# Altium footprint library PcbLibV01.PcbLib: 5 footprints
Each footprint in its own frame and in the unit in brackets; x right, y up, seen from the top. Pads: shape width x height; smd on the part's side, far side on the other; paste and mask are expansions set on the pad; w line width, h text height; cw(c..) or ccw(c..) is an arc to the next point about the centre after c.
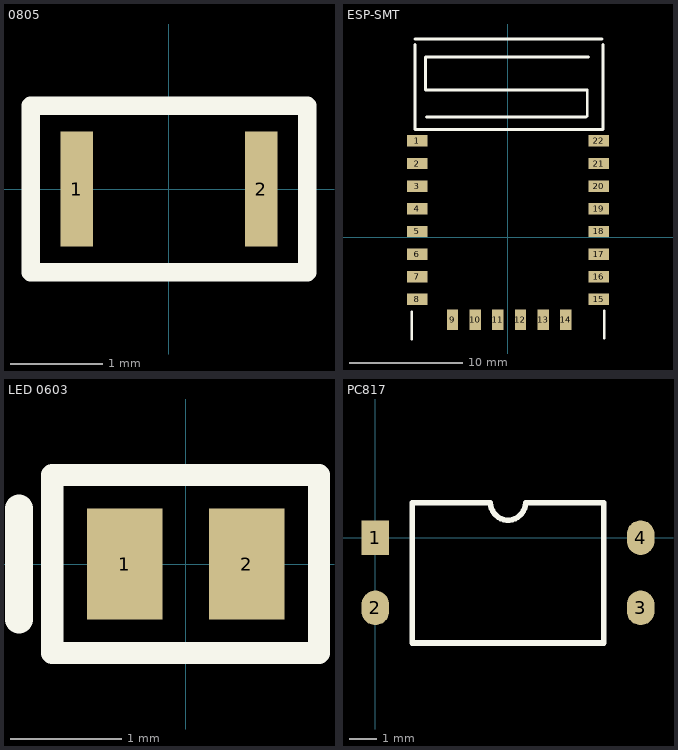
[diagram p0: the footprints below, top view; thin cyan lines are the x and y axes]

## 0805 [mm]
pads (2):
  rect 0.35x1.25 smd: 1(-1,0) 2(1,0)
Top Overlay:
  lines w0.2: -1.5,-0.9 -1.5,0.9 1.5,0.9 1.5,-0.9 -1.5,-0.9
3D body "User Library-CR2012-0805.step": height 0.61, standoff 0.01, extent -1,-0.625 1,0.625

## ESP-SMT [mm]
pads (22):
  rect 1.8x1 smd: 1(-8,8.5) 2(-8,6.5) 3(-8,4.5) 4(-8,2.5) 5(-8,0.5) 6(-8,-1.5) 7(-8,-3.5) 8(-8,-5.5) 15(8,-5.5) 16(8,-3.5) 17(8,-1.5) 18(8,0.5) 19(8,2.5) 20(8,4.5) 21(8,6.5) 22(8,8.5)
  rect 1x1.8 smd: 9(-4.9,-7.3) 10(-2.9,-7.3) 11(-0.9,-7.3) 12(1.1,-7.3) 13(3.1,-7.3) 14(5.1,-7.3)
Top Overlay:
  lines w0.254: -8.5,-9 -8.5,-6.6 ; -8.2,17 -8.2,9.5 8.4,9.5 8.4,17 ; -8.2,17.5 8.3,17.5 ; -7.2,10.6 6.9,10.6 7,10.7 7,13 -7.3,13 -7.3,15.9 6.7,15.9 7.1,15.9 ; 8.5,-8.9 8.5,-6.5
3D body "User Library-EPS8266 ESP-12E-1.STEP": height 2.65, standoff -0.04, extent -7.905,-7 8.105,17.005

## LED 0603 [mm]
pads (2):
  rect 0.68x1 smd: 1(-0.55,0) 2(0.55,0)
Top Overlay:
  lines w0.2: -1.2,-0.8 -1.2,0.8 1.2,0.8 1.2,-0.8 -1.2,-0.8
  lines w0.254: -1.5,-0.5 -1.5,0.5
3D body "User Library-LED SMD0603.step": height 0.68, standoff 0, extent -0.808,-0.368 0.842,0.357

## PC817 [mm]
pads (4):
  rect 1x1.25 smd: 1(0,0)
  oval 1x1.25 smd: 2(0,-2.54) 3(9.6,-2.54) 4(9.6,0)
Top Overlay:
  lines w0.2: 1.335,-3.81 1.335,1.27 4.165,1.27 ccw(c4.8,1.27) 5.435,1.27 8.265,1.27 8.265,-3.81 1.335,-3.81
3D body "pc817x1nip0f.stp": height 3.86, standoff 0.01, extent -0.2,-3.5 9.8,1.08

## PCBComponent_1 [mm]